# Altium footprint library 2026560021.PcbLib: 1 footprints
Each footprint in its own frame and in the unit in brackets; x right, y up, seen from the top. Pads: shape width x height; smd on the part's side, far side on the other; paste and mask are expansions set on the pad; w line width, h text height; cw(c..) or ccw(c..) is an arc to the next point about the centre after c.
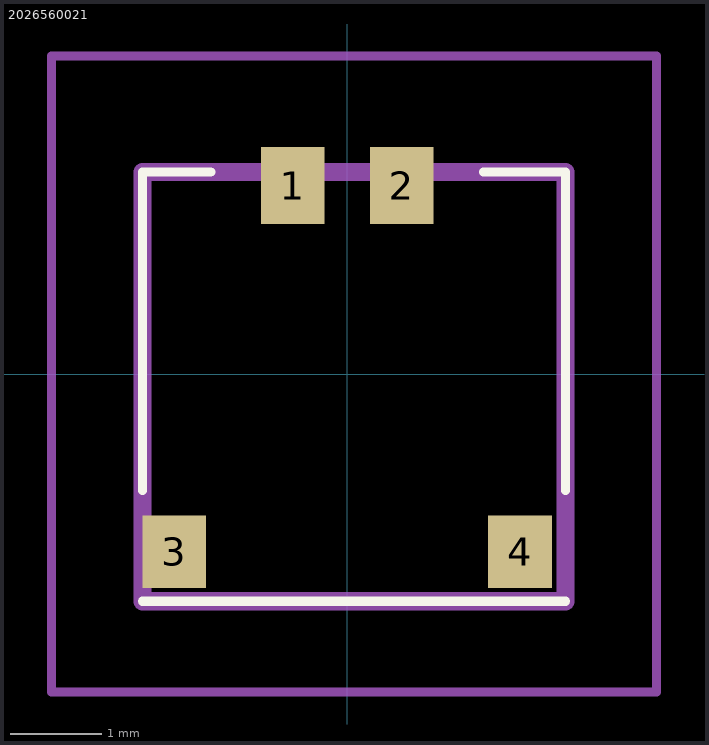
[diagram p0: the footprint, top view; thin cyan lines are the x and y axes]

## 2026560021 [mm]
pads (4):
  rect 0.7x0.85 smd: 1(-0.6,2.072) 2(0.6,2.072)
  rect 0.7x0.8 smd: 3(-1.9,-1.953) 4(1.9,-1.953)
L26-Silk Screen Top (Multiple PADS layers...):
  lines w0.1: -2.25,-2.497 2.4,-2.497 ; -2.25,-1.278 -2.25,2.222 -1.5,2.222 ; 1.5,2.222 2.4,2.222 2.4,-1.278
L15 (Multiple PADS layers...):
  lines w0.2: -2.25,-2.497 -2.25,2.222 2.4,2.222 2.4,-2.497 -2.25,-2.497
L20:
  lines w0.1: -3.25,-3.497 -3.25,3.498 3.4,3.498 3.4,-3.497 -3.25,-3.497
3D body "2026560021.stp": height 1.17, standoff -0.03, extent -2.25,-2.504 2.25,2.286